# Altium schematic symbol library SCH - PASSIVES - SIGNAL TRANSFORMER.SCHLIB: 1 symbol
Pins are listed as number, name and electrical type; pins without a type are passive.

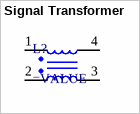
[diagram p0: symbol Signal Transformer]

## Signal Transformer
designator L?
pins: 1, 2, 3, 4